# Altium schematic symbol library TPA301D.SchLib: 1 symbol
Pins are listed as number, name and electrical type; pins without a type are passive.

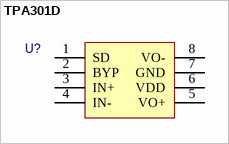
[diagram p0: symbol TPA301D]

## TPA301D
designator U?  (value not drawn)
pins: 1 SD, 2 BYP, 3 IN+, 4 IN-, 5 VO+, 6 VDD, 7 GND, 8 VO-
1 alternate drawing of the same symbol